# EAGLE library part 52435-3071 (library 52435-3071)
MOLEX - 52435-3071 - SOCKET ZIF, 0.5MM, 30WAY Source: Datasheet <http://www.mouser.com/ds/2/276/0524353071_FFC_FPC_CONNECTORS-170550.pdf>
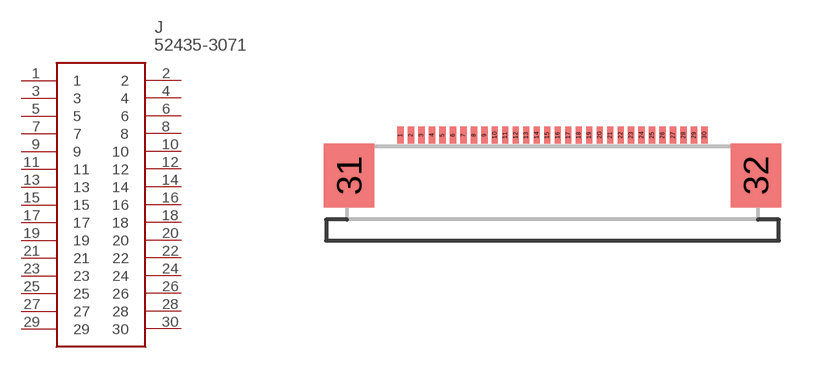
[diagram p0: symbol with the pads of 52435-3071; footprint 52435-3071]

Designator prefix J

## 52435-3071 (Allied_Number: 70191472; Allied_Price-Stock: https://www.alliedelec.com/molex-incorporated-52435-3071/70191472/; Description: MOLEX - 52435-3071 - SOCKET ZIF, 0.5MM, 30WAY; Height: mm; Manufacturer_Name: Molex; Manufacturer_Part_Number: 52435-3071; Mouser_Part_Number: 538-52435-3071; Mouser_Price-Stock: https://www.mouser.com/Search/Refine.aspx?Keyword=538-52435-3071; RS_Part_Number: 7976581P; RS_Price-Stock: http://uk.rs-online.com/web/p/products/7976581P)  [52435-3071]
1  1
2  2
3  3
4  4
5  5
6  6
7  7
8  8
9  9
10  10
11  11
12  12
13  13
14  14
15  15
16  16
17  17
18  18
19  19
20  20
21  21
22  22
23  23
24  24
25  25
26  26
27  27
28  28
29  29
30  30

## Footprint 52435-3071 (pad centres in mm)
52435-3071
smd 0.3 x 0.8: 1 -7.25,0.53; 2 -6.75,0.53; 3 -6.25,0.53; 4 -5.75,0.53; 5 -5.25,0.53; 6 -4.75,0.53; 7 -4.25,0.53; 8 -3.75,0.53; 9 -3.25,0.53; 10 -2.75,0.53; 11 -2.25,0.53; 12 -1.75,0.53; 13 -1.25,0.53; 14 -0.75,0.53; 15 -0.25,0.53; 16 0.25,0.53; 17 0.75,0.53; 18 1.25,0.53; 19 1.75,0.53; 20 2.25,0.53; 21 2.75,0.53; 22 3.25,0.53; 23 3.75,0.53; 24 4.25,0.53; 25 4.75,0.53; 26 5.25,0.53; 27 5.75,0.53; 28 6.25,0.53; 29 6.75,0.53; 30 7.25,0.53
smd 2.4 x 3.05: 31 -9.7,-1.395; 32 9.7,-1.395